# Altium footprint library killswitch.PcbLib: 2 footprints
Each footprint in its own frame and in the unit in brackets; x right, y up, seen from the top. Pads: shape width x height; smd on the part's side, far side on the other; paste and mask are expansions set on the pad; w line width, h text height; cw(c..) or ccw(c..) is an arc to the next point about the centre after c.
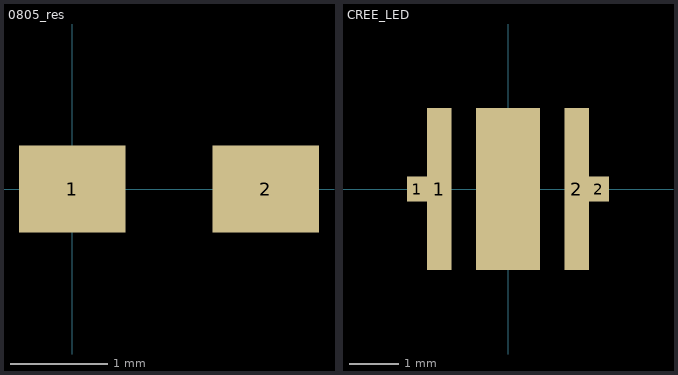
[diagram p0: the footprints below, top view; thin cyan lines are the x and y axes]

## 0805_res [mm]
pads (2):
  rect 1.1x0.9 smd: 1(0,0) 2(2,0)

## CREE_LED [mm]
pads (5):
  rect 0.4x0.5 smd: 1(-1.85,0) 2(1.85,0)
  rect 0.5x3.3 smd: 1(-1.4,0) 2(1.4,0)
  rect 1.3x3.3 smd: ""(0,0)
3D body: height 2.01, standoff 0.01, extent -1.725,-1.725 1.725,1.725